# Altium schematic symbol library BBCMP-P24.SchLib: 1 symbol
Pins are listed as number, name and electrical type; pins without a type are passive.

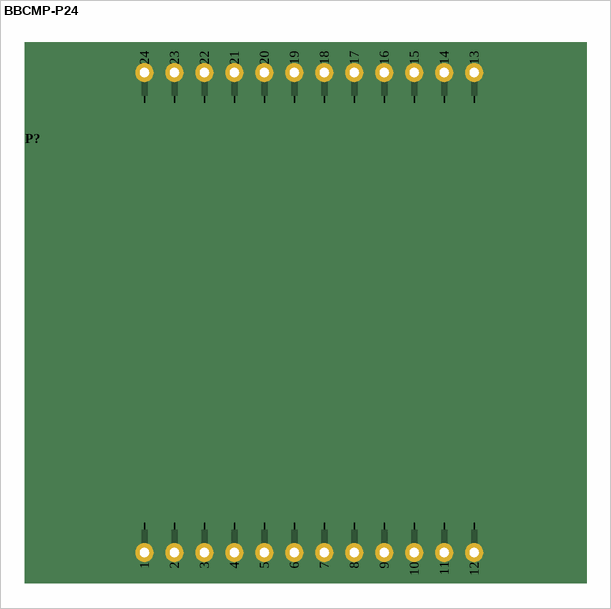
[diagram p0: symbol BBCMP-P24]

## BBCMP-P24
designator P?  (value not drawn)  (no BOM)
BreadBoard component, 2x12
pins: 1, 2, 3, 4, 5, 6, 7, 8, 9, 10, 11, 12, 13, 14, 15, 16, 17, 18, 19, 20, 21, 22, 23, 24